# Altium footprint library 双驱.PcbLib: 39 footprints (part 3 of 3)
Each footprint in its own frame and in the unit in brackets; x right, y up, seen from the top. Pads: shape width x height; smd on the part's side, far side on the other; paste and mask are expansions set on the pad; w line width, h text height; cw(c..) or ccw(c..) is an arc to the next point about the centre after c.
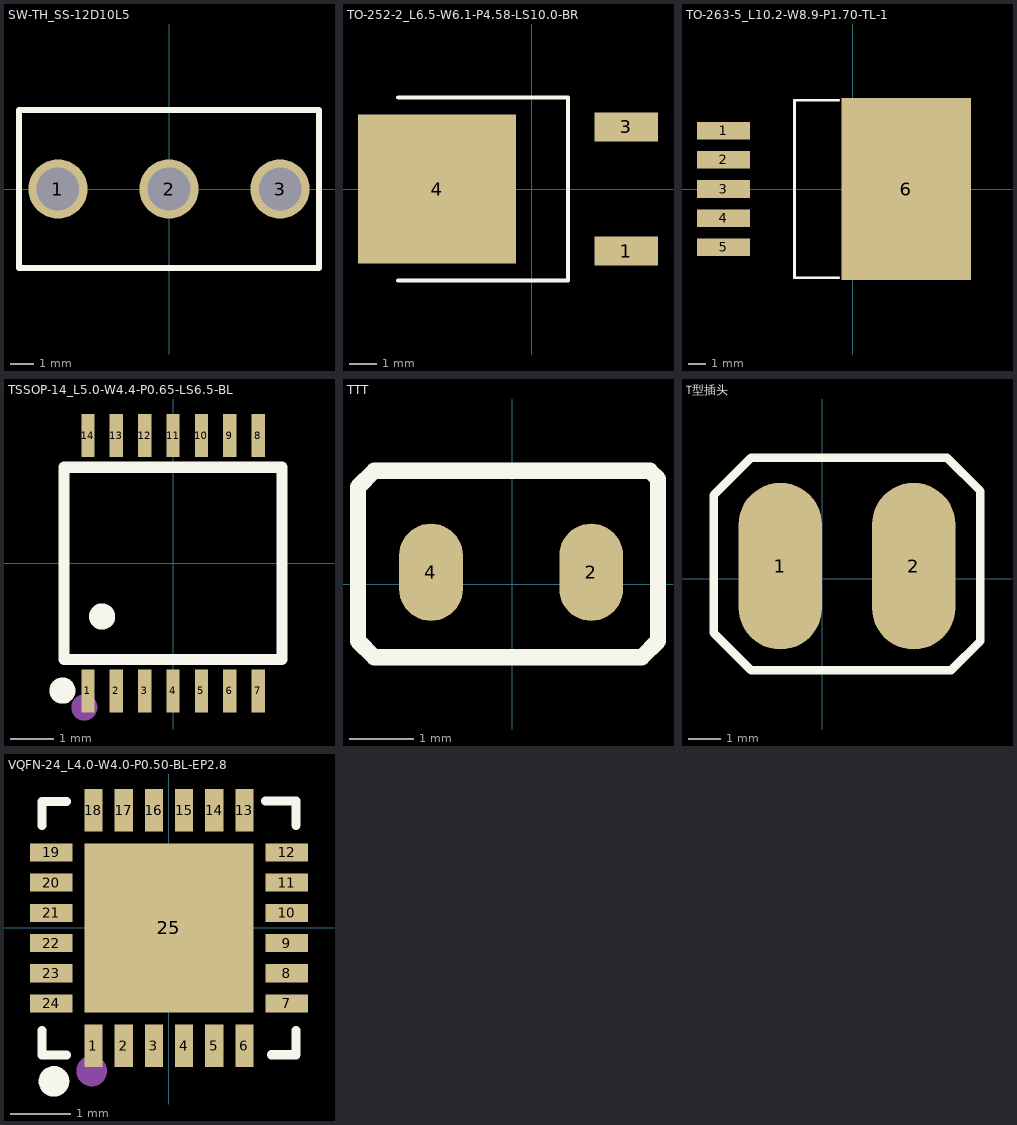
[diagram p2: the footprints below, top view; thin cyan lines are the x and y axes]

## SW-TH_SS-12D10L5 [mm]
pads (3):
  round 2.5 hole 1.8: 1(-4.7,0) 2(0,0) 3(4.7,0)
Top Overlay:
  lines w0.254: -6.35,-3.35 6.35,-3.35 6.35,3.35 -6.35,3.35 -6.35,-3.35

## TO-252-2_L6.5-W6.1-P4.58-LS10.0-BR [mm]
pads (3):
  rect 2.336x1.064 smd: 1(3.485,-2.29) 3(3.485,2.29)
  rect 5.826x5.491 smd: 4(-3.486,0)
Top Overlay:
  lines w0.152: -4.914,-3.376 1.339,-3.376 1.339,3.376 -4.914,3.376
Mechanical 15:
  circle w0.254: c3.972,-2.362 r0.127

## TO-263-5_L10.2-W8.9-P1.70-TL-1 [mm]
pads (6):
  rect 3.083x1.02 smd: 1(-7.529,3.4) 2(-7.529,1.7) 3(-7.529,0) 4(-7.529,-1.7) 5(-7.529,-3.4)
  rect 7.521x10.566 smd: 6(3.091,0)
Top Overlay:
  lines w0.152: -0.822,-5.156 -3.401,-5.156 -3.401,5.156 -0.822,5.156

## TSSOP-14_L5.0-W4.4-P0.65-LS6.5-BL [mil]
pads (14):
  rect 12x39 smd: 1(-76.77,-115.16) 2(-51.18,-115.16) 3(-25.59,-115.16) 4(0,-115.16) 5(25.59,-115.16) 6(51.18,-115.16) 7(76.77,-115.16) 8(76.77,115.16) 9(51.18,115.16) 10(25.59,115.16) 11(0,115.16) 12(-25.59,115.16) 13(-51.18,115.16) 14(-76.77,115.16)
Top Overlay:
  circle w11.81: c-99.85,-114.84 r5.91
  circle w11.81: c-64,-48 r5.91
  lines w10: -98.42,-86.61 98.42,-86.61 98.42,86.61 -98.42,86.61 -98.42,-86.61
Mechanical 15:
  circle w11.81: c-80,-130 r5.91

## TTT [mm]
pads (2):
  oval 1x1.524 smd: 2(1.24,0.188) 4(-1.27,0.188)
Top Overlay:
  lines w0.254: -2.413,-0.889 -2.413,1.524 -2.159,1.778 2.159,1.778 2.286,1.651 2.286,-0.889 2.032,-1.143 -2.159,-1.143 -2.413,-0.889

## T型插头 [mil]
pads (2):
  oval 100x200 smd: 1(-50,15) 2(110,15)
Top Overlay:
  lines w10: -130,-65 -85,-110 155,-110 190,-75 190,105 150,145 -85,145 -130,100 -130,-65

## VQFN-24_L4.0-W4.0-P0.50-BL-EP2.8 [mm]
pads (25):
  rect 0.3x0.7 smd: 1(-1.25,-1.95) 2(-0.75,-1.95) 3(-0.25,-1.95) 4(0.25,-1.95) 5(0.75,-1.95) 6(1.25,-1.95) 13(1.25,1.95) 14(0.75,1.95) 15(0.25,1.95) 16(-0.25,1.95) 17(-0.75,1.95) 18(-1.25,1.95)
  rect 0.7x0.3 smd: 7(1.95,-1.25) 8(1.95,-0.75) 9(1.95,-0.25) 10(1.95,0.25) 11(1.95,0.75) 12(1.95,1.25) 19(-1.95,1.25) 20(-1.95,0.75) 21(-1.95,0.25) 22(-1.95,-0.25) 23(-1.95,-0.75) 24(-1.95,-1.25)
  rect 2.8x2.8 smd: 25(0,0)
Top Overlay:
  circle w0.254: c-1.905,-2.54 r0.127
  lines w0.15: -2.1,-1.7 -2.1,-2.104 -1.7,-2.104 ; -2.1,1.696 -2.1,2.096 -1.7,2.096 ; 1.6,2.1 2.1,2.1 2.1,1.7 ; 1.7,-2.1 2.1,-2.1 2.1,-1.7
Mechanical 15:
  circle w0.254: c-1.28,-2.37 r0.127